# Altium integrated library ICM-42605.IntLib: 1 symbol
Pins are listed as number, name and electrical type; pins without a type are passive.

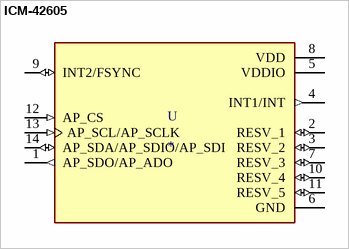
[diagram p0: symbol ICM-42605]

## ICM-42605
designator U
Accelerometer, Gyroscope, 6 Axis Sensor IÂ²C, I3Câ„ , SPI Output; MP: ICM-42605; MF: TDK InvenSense; Value: *; Package: - TDK InvenSense; SnapEDA_Link: https://www.snapeda.com/parts/ICM-42605/TDK%20InvenSense/view-part/3226540/?ref=snap; Digi-Key_Part_Number: 1428-1152-1-ND; Digi-Key_Purchase_URL: https://www.digikey.com.cn/product-detail/zh/tdk-invensense/ICM-42605/1428-1152-1-ND/9953675?utm_source=snapeda&utm_medium=aggregator&utm_campaign=symbol
footprint PQFN50P300X250X97-14N
pins: 1 AP_SDO/AP_ADO (out), 2 RESV_1 (io), 3 RESV_2 (io), 4 INT1/INT (out), 5 VDDIO (power), 6 GND (power), 7 RESV_3 (io), 8 VDD (power), 9 INT2/FSYNC (io), 10 RESV_4 (io), 11 RESV_5 (io), 12 AP_CS (in), 13 AP_SCL/AP_SCLK (in), 14 AP_SDA/AP_SDIO/AP_SDI (io)